# EAGLE library part A-HX-430IBHB-10R (library led-seg)
Xuyang ShenZhen common anode 3 digit 7 segment led 30mmX16mm 7mm Hight (2.54mm pin) silk name: hx-430ibhb-10r by hyl, heyongli@gmail.com 2010-6-3
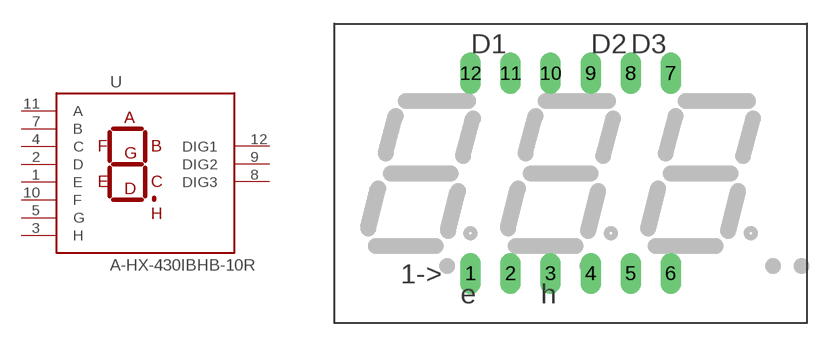
[diagram p9: symbol with the pads of A-HX430-30MMX16MM; footprint A-HX430-30MMX16MM]

Designator prefix -

## A-HX-430IBHB-10R  [A-HX430-30MMX16MM]
1  E  in
2  D  in
3  H  in
4  C  in
5  G  in
7  B  in
8  DIG3  in
9  DIG2  in
10  F  in
11  A  in
12  DIG1  in

## Footprint A-HX430-30MMX16MM (pad centres in mm)
drill 0.8 long: 1 -6.35,-6.35; 2 -3.81,-6.35; 3 -1.27,-6.35; 4 1.27,-6.35; 5 3.81,-6.35; 6 6.35,-6.35; 7 6.35,6.35; 8 3.81,6.35; 9 1.27,6.35; 10 -1.27,6.35; 11 -3.81,6.35; 12 -6.35,6.35